# EAGLE library part IS61LP6432A (library memory)
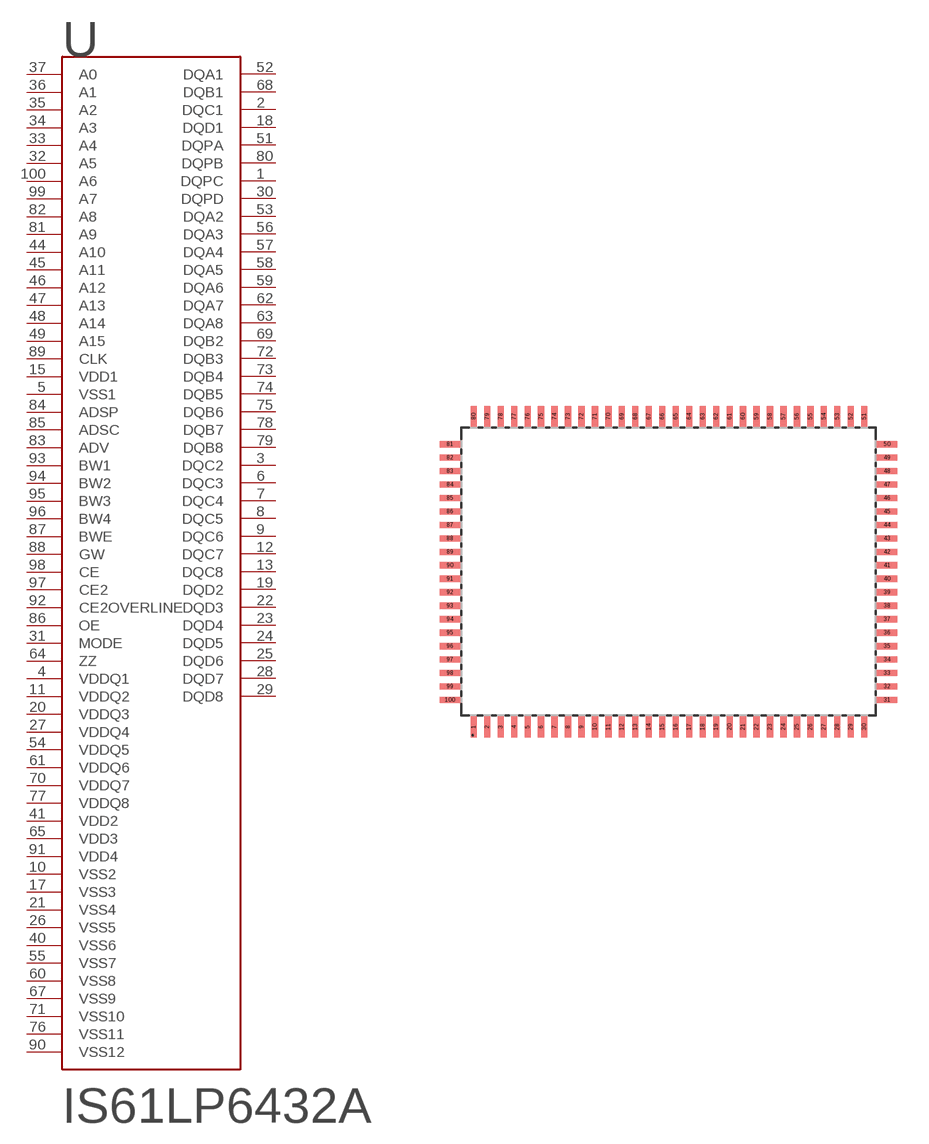
[diagram p0: symbol with the pads of IS61LP6432A; footprint IS61LP6432A]

Designator prefix -

## IS61LP6432A  [IS61LP6432A]
1  DQPC
2  DQC1
3  DQC2
4  VDDQ1  pwr
5  VSS1  pwr
6  DQC3
7  DQC4
8  DQC5
9  DQC6
10  VSS2  pwr
11  VDDQ2  pwr
12  DQC7
13  DQC8
15  VDD1  pwr
17  VSS3  pwr
18  DQD1
19  DQD2
20  VDDQ3  pwr
21  VSS4  pwr
22  DQD3
23  DQD4
24  DQD5
25  DQD6
26  VSS5  pwr
27  VDDQ4  pwr
28  DQD7
29  DQD8
30  DQPD
31  MODE  in
32  A5  in
33  A4  in
34  A3  in
35  A2  in
36  A1  in
37  A0  in
40  VSS6  pwr
41  VDD2  pwr
44  A10  in
45  A11  in
46  A12  in
47  A13  in
48  A14  in
49  A15  in
51  DQPA
52  DQA1
53  DQA2
54  VDDQ5  pwr
55  VSS7  pwr
56  DQA3
57  DQA4
58  DQA5
59  DQA6
60  VSS8  pwr
61  VDDQ6  pwr
62  DQA7
63  DQA8
64  ZZ  in
65  VDD3  pwr
67  VSS9  pwr
68  DQB1
69  DQB2
70  VDDQ7  pwr
71  VSS10  pwr
72  DQB3
73  DQB4
74  DQB5
75  DQB6
76  VSS11  pwr
77  VDDQ8  pwr
78  DQB7
79  DQB8
80  DQPB
81  A9  in
82  A8  in
83  ADV  in
84  ADSP  in
85  ADSC  in
86  OE  in
87  BWE  in
88  GW  in
89  CLK  in
90  VSS12  pwr
91  VDD4  pwr
92  CE2OVERLINE  in
93  BW1  in
94  BW2  in
95  BW3  in
96  BW4  in
97  CE2  in
98  CE  in
99  A7  in
100  A6  in

## Footprint IS61LP6432A (pad centres in mm)
smd 0.3 x 1: 1 -9.4,-7.5; 2 -8.75,-7.5; 3 -8.1,-7.5; 4 -7.45,-7.5; 5 -6.8,-7.5; 6 -6.15,-7.5; 7 -5.5,-7.5; 8 -4.85,-7.5; 9 -4.2,-7.5; 10 -3.55,-7.5; 11 -2.9,-7.5; 12 -2.25,-7.5; 13 -1.6,-7.5; 14 -0.95,-7.5; 15 -0.3,-7.5; 16 0.35,-7.5; 17 1,-7.5; 18 1.65,-7.5; 19 2.3,-7.5; 20 2.95,-7.5; 21 3.6,-7.5; 22 4.25,-7.5; 23 4.9,-7.5; 24 5.55,-7.5; 25 6.2,-7.5; 26 6.85,-7.5; 27 7.5,-7.5; 28 8.15,-7.5; 29 8.8,-7.5; 30 9.45,-7.5; 51 9.45,7.5; 52 8.8,7.5; 53 8.15,7.5; 54 7.5,7.5; 55 6.85,7.5; 56 6.2,7.5; 57 5.55,7.5; 58 4.9,7.5; 59 4.25,7.5; 60 3.6,7.5; 61 2.95,7.5; 62 2.3,7.5; 63 1.65,7.5; 64 1,7.5; 65 0.35,7.5; 66 -0.3,7.5; 67 -0.95,7.5; 68 -1.6,7.5; 69 -2.25,7.5; 70 -2.9,7.5; 71 -3.55,7.5; 72 -4.2,7.5; 73 -4.85,7.5; 74 -5.5,7.5; 75 -6.15,7.5; 76 -6.8,7.5; 77 -7.45,7.5; 78 -8.1,7.5; 79 -8.75,7.5; 80 -9.4,7.5
smd 1 x 0.3: 31 10.55,-6.2; 32 10.55,-5.55; 33 10.55,-4.9; 34 10.55,-4.25; 35 10.55,-3.6; 36 10.55,-2.95; 37 10.55,-2.3; 38 10.55,-1.65; 39 10.55,-1; 40 10.55,-0.35; 41 10.55,0.3; 42 10.55,0.95; 43 10.55,1.6; 44 10.55,2.25; 45 10.55,2.9; 46 10.55,3.55; 47 10.55,4.2; 48 10.55,4.85; 49 10.55,5.5; 50 10.55,6.15; 81 -10.55,6.15; 82 -10.55,5.5; 83 -10.55,4.85; 84 -10.55,4.2; 85 -10.55,3.55; 86 -10.55,2.9; 87 -10.55,2.25; 88 -10.55,1.6; 89 -10.55,0.95; 90 -10.55,0.3; 91 -10.55,-0.35; 92 -10.55,-1; 93 -10.55,-1.65; 94 -10.55,-2.3; 95 -10.55,-2.95; 96 -10.55,-3.6; 97 -10.55,-4.25; 98 -10.55,-4.9; 99 -10.55,-5.55; 100 -10.55,-6.2